# EAGLE library part QMA6981 (library blinkinlabs)
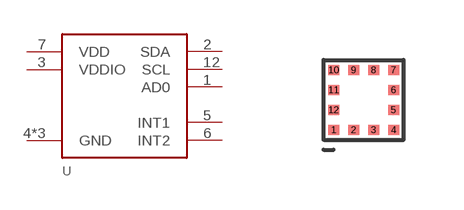
[diagram p13: symbol with the pads of LGA2X2MM; footprint LGA2X2MM]

Designator prefix -

## QMA6981  [LGA2X2MM]
1  AD0  pwr
2  SDA  pwr
3  VDDIO  pwr
4  GND  pwr
5  INT1  pwr
6  INT2  pwr
7  VDD  pwr
8  GND  pwr
9  GND  pwr
12  SCL  pwr

## Footprint LGA2X2MM (pad centres in mm)
smd 0.275 x 0.25: 1 -0.75,-0.75; 2 -0.25,-0.75; 3 0.25,-0.75; 4 0.75,-0.75; 5 0.75,-0.25; 6 0.75,0.25; 7 0.75,0.75; 8 0.25,0.75; 9 -0.25,0.75; 10 -0.75,0.75; 11 -0.75,0.25; 12 -0.75,-0.25